# EAGLE library part Z16FXX11AL (library Zilog-ZNEO-v1_0)
ZNEO Z16F Series in LQFP-100 package - includes the following parts: Z16F2811AL (128K Flash) Z16F6411AL (64K Flash) Z16F3211AL (32K Flash) ZiLOG, Inc. http://www.zilog.com/
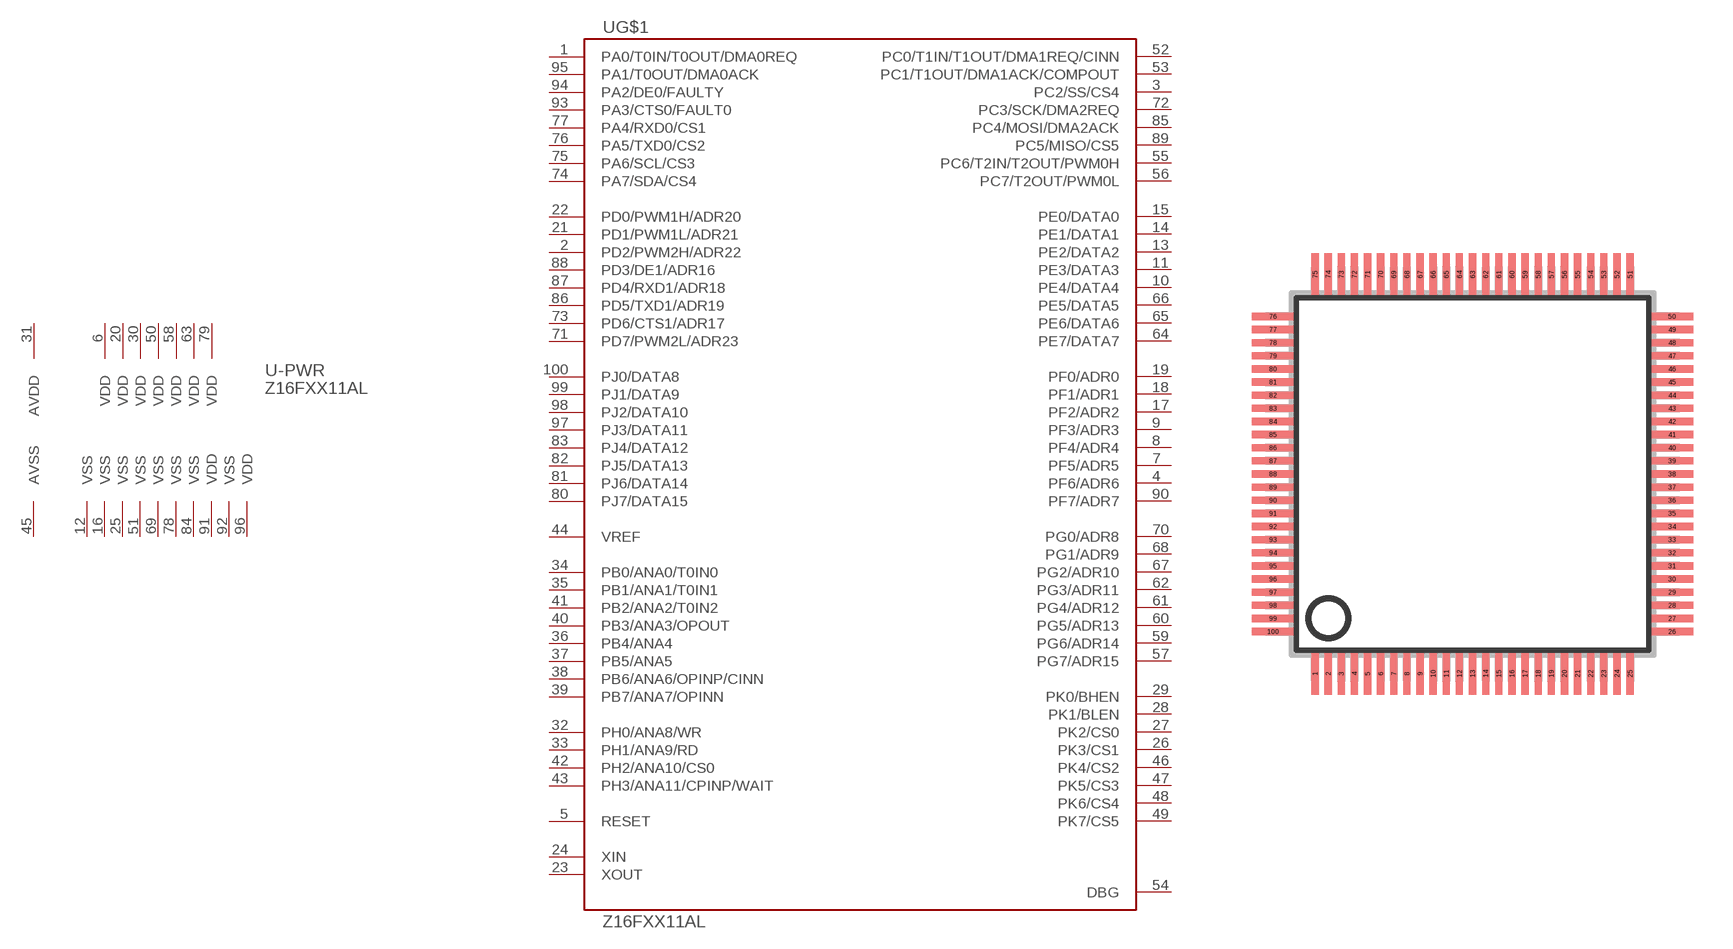
[diagram p0: symbol with the pads of SQFP-S-14X14-100; footprint SQFP-S-14X14-100]

Designator prefix -; gates G$1=Z16FXX11AL -PWR=PWR_100-PIN

## Z16FXX11AL  [SQFP-S-14X14-100]
1  G$1:PA0/T0IN/T0OUT/DMA0REQ
2  G$1:PD2/PWM2H/ADR22
3  G$1:PC2/SS/CS4
4  G$1:PF6/ADR6
5  G$1:RESET
6  -PWR:VDD  pwr
7  G$1:PF5/ADR5
8  G$1:PF4/ADR4
9  G$1:PF3/ADR3
10  G$1:PE4/DATA4
11  G$1:PE3/DATA3
12  -PWR:VSS  pwr
13  G$1:PE2/DATA2
14  G$1:PE1/DATA1
15  G$1:PE0/DATA0
16  -PWR:VSS  pwr
17  G$1:PF2/ADR2
18  G$1:PF1/ADR1
19  G$1:PF0/ADR0
20  -PWR:VDD  pwr
21  G$1:PD1/PWM1L/ADR21
22  G$1:PD0/PWM1H/ADR20
23  G$1:XOUT
24  G$1:XIN
25  -PWR:VSS  pwr
26  G$1:PK3/CS1
27  G$1:PK2/CS0
28  G$1:PK1/BLEN
29  G$1:PK0/BHEN
30  -PWR:VDD  pwr
31  -PWR:AVDD  pwr
32  G$1:PH0/ANA8/WR
33  G$1:PH1/ANA9/RD
34  G$1:PB0/ANA0/T0IN0
35  G$1:PB1/ANA1/T0IN1
36  G$1:PB4/ANA4
37  G$1:PB5/ANA5
38  G$1:PB6/ANA6/OPINP/CINN
39  G$1:PB7/ANA7/OPINN
40  G$1:PB3/ANA3/OPOUT
41  G$1:PB2/ANA2/T0IN2
42  G$1:PH2/ANA10/CS0
43  G$1:PH3/ANA11/CPINP/WAIT
44  G$1:VREF
45  -PWR:AVSS  pwr
46  G$1:PK4/CS2
47  G$1:PK5/CS3
48  G$1:PK6/CS4
49  G$1:PK7/CS5
50  -PWR:VDD  pwr
51  -PWR:VSS  pwr
52  G$1:PC0/T1IN/T1OUT/DMA1REQ/CINN
53  G$1:PC1/T1OUT/DMA1ACK/COMPOUT
54  G$1:DBG
55  G$1:PC6/T2IN/T2OUT/PWM0H
56  G$1:PC7/T2OUT/PWM0L
57  G$1:PG7/ADR15
58  -PWR:VDD  pwr
59  G$1:PG6/ADR14
60  G$1:PG5/ADR13
61  G$1:PG4/ADR12
62  G$1:PG3/ADR11
63  -PWR:VDD  pwr
64  G$1:PE7/DATA7
65  G$1:PE6/DATA6
66  G$1:PE5/DATA5
67  G$1:PG2/ADR10
68  G$1:PG1/ADR9
69  -PWR:VSS  pwr
70  G$1:PG0/ADR8
71  G$1:PD7/PWM2L/ADR23
72  G$1:PC3/SCK/DMA2REQ
73  G$1:PD6/CTS1/ADR17
74  G$1:PA7/SDA/CS4
75  G$1:PA6/SCL/CS3
76  G$1:PA5/TXD0/CS2
77  G$1:PA4/RXD0/CS1
78  -PWR:VSS  pwr
79  -PWR:VDD  pwr
80  G$1:PJ7/DATA15
81  G$1:PJ6/DATA14
82  G$1:PJ5/DATA13
83  G$1:PJ4/DATA12
84  -PWR:VSS  pwr
85  G$1:PC4/MOSI/DMA2ACK
86  G$1:PD5/TXD1/ADR19
87  G$1:PD4/RXD1/ADR18
88  G$1:PD3/DE1/ADR16
89  G$1:PC5/MISO/CS5
90  G$1:PF7/ADR7
91  -PWR:VDD  pwr
92  -PWR:VSS  pwr
93  G$1:PA3/CTS0/FAULT0
94  G$1:PA2/DE0/FAULTY
95  G$1:PA1/T0OUT/DMA0ACK
96  -PWR:VDD  pwr
97  G$1:PJ3/DATA11
98  G$1:PJ2/DATA10
99  G$1:PJ1/DATA9
100  G$1:PJ0/DATA8

## Footprint SQFP-S-14X14-100 (pad centres in mm)
LQFP-100; 0,5mm pitch
smd 0.275 x 1.6: 1 -6,-7.6; 2 -5.5,-7.6; 3 -5,-7.6; 4 -4.5,-7.6; 5 -4,-7.6; 6 -3.5,-7.6; 7 -3,-7.6; 8 -2.5,-7.6; 9 -2,-7.6; 10 -1.5,-7.6; 11 -1,-7.6; 12 -0.5,-7.6; 13 0,-7.6; 14 0.5,-7.6; 15 1,-7.6; 16 1.5,-7.6; 17 2,-7.6; 18 2.5,-7.6; 19 3,-7.6; 20 3.5,-7.6; 21 4,-7.6; 22 4.5,-7.6; 23 5,-7.6; 24 5.5,-7.6; 25 6,-7.6; 51 6,7.6; 52 5.5,7.6; 53 5,7.6; 54 4.5,7.6; 55 4,7.6; 56 3.5,7.6; 57 3,7.6; 58 2.5,7.6; 59 2,7.6; 60 1.5,7.6; 61 1,7.6; 62 0.5,7.6; 63 0,7.6; 64 -0.5,7.6; 65 -1,7.6; 66 -1.5,7.6; 67 -2,7.6; 68 -2.5,7.6; 69 -3,7.6; 70 -3.5,7.6; 71 -4,7.6; 72 -4.5,7.6; 73 -5,7.6; 74 -5.5,7.6; 75 -6,7.6
smd 1.6 x 0.275: 26 7.6,-6; 27 7.6,-5.5; 28 7.6,-5; 29 7.6,-4.5; 30 7.6,-4; 31 7.6,-3.5; 32 7.6,-3; 33 7.6,-2.5; 34 7.6,-2; 35 7.6,-1.5; 36 7.6,-1; 37 7.6,-0.5; 38 7.6,0; 39 7.6,0.5; 40 7.6,1; 41 7.6,1.5; 42 7.6,2; 43 7.6,2.5; 44 7.6,3; 45 7.6,3.5; 46 7.6,4; 47 7.6,4.5; 48 7.6,5; 49 7.6,5.5; 50 7.6,6; 76 -7.6,6; 77 -7.6,5.5; 78 -7.6,5; 79 -7.6,4.5; 80 -7.6,4; 81 -7.6,3.5; 82 -7.6,3; 83 -7.6,2.5; 84 -7.6,2; 85 -7.6,1.5; 86 -7.6,1; 87 -7.6,0.5; 88 -7.6,0; 89 -7.6,-0.5; 90 -7.6,-1; 91 -7.6,-1.5; 92 -7.6,-2; 93 -7.6,-2.5; 94 -7.6,-3; 95 -7.6,-3.5; 96 -7.6,-4; 97 -7.6,-4.5; 98 -7.6,-5; 99 -7.6,-5.5; 100 -7.6,-6